# EAGLE library part LED_MATRIX_CONNECTOR_OUT (library ++Bedrahtet)
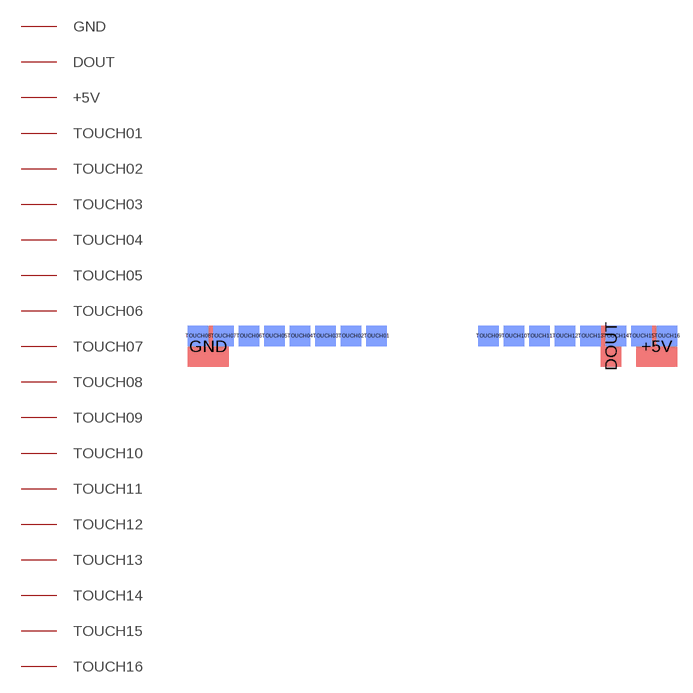
[diagram p51: symbol with the pads of LED_MATRIX_CONNECTOR_OUT; footprint LED_MATRIX_CONNECTOR_OUT]

Designator prefix -

## LED_MATRIX_CONNECTOR_OUT  [LED_MATRIX_CONNECTOR_OUT]
+5V  +5V  pwr
DOUT  DOUT
GND  GND  pwr
TOUCH01  TOUCH01
TOUCH02  TOUCH02
TOUCH03  TOUCH03
TOUCH04  TOUCH04
TOUCH05  TOUCH05
TOUCH06  TOUCH06
TOUCH07  TOUCH07
TOUCH08  TOUCH08
TOUCH09  TOUCH09
TOUCH10  TOUCH10
TOUCH11  TOUCH11
TOUCH12  TOUCH12
TOUCH13  TOUCH13
TOUCH14  TOUCH14
TOUCH15  TOUCH15
TOUCH16  TOUCH16

## Footprint LED_MATRIX_CONNECTOR_OUT (pad centres in mm)
smd 4 x 4: +5V 22,0; GND -22,0
smd 2 x 4: DOUT 17.5,0
smd 2 x 2 bottom: TOUCH01 -5.5,1; TOUCH02 -8,1; TOUCH03 -10.5,1; TOUCH04 -13,1; TOUCH05 -15.5,1; TOUCH06 -18,1; TOUCH07 -20.5,1; TOUCH08 -23,1; TOUCH09 5.5,1; TOUCH10 8,1; TOUCH11 10.5,1; TOUCH12 13,1; TOUCH13 15.5,1; TOUCH14 18,1; TOUCH15 20.5,1; TOUCH16 23,1